# EAGLE library part BF533 (library monome-inc)
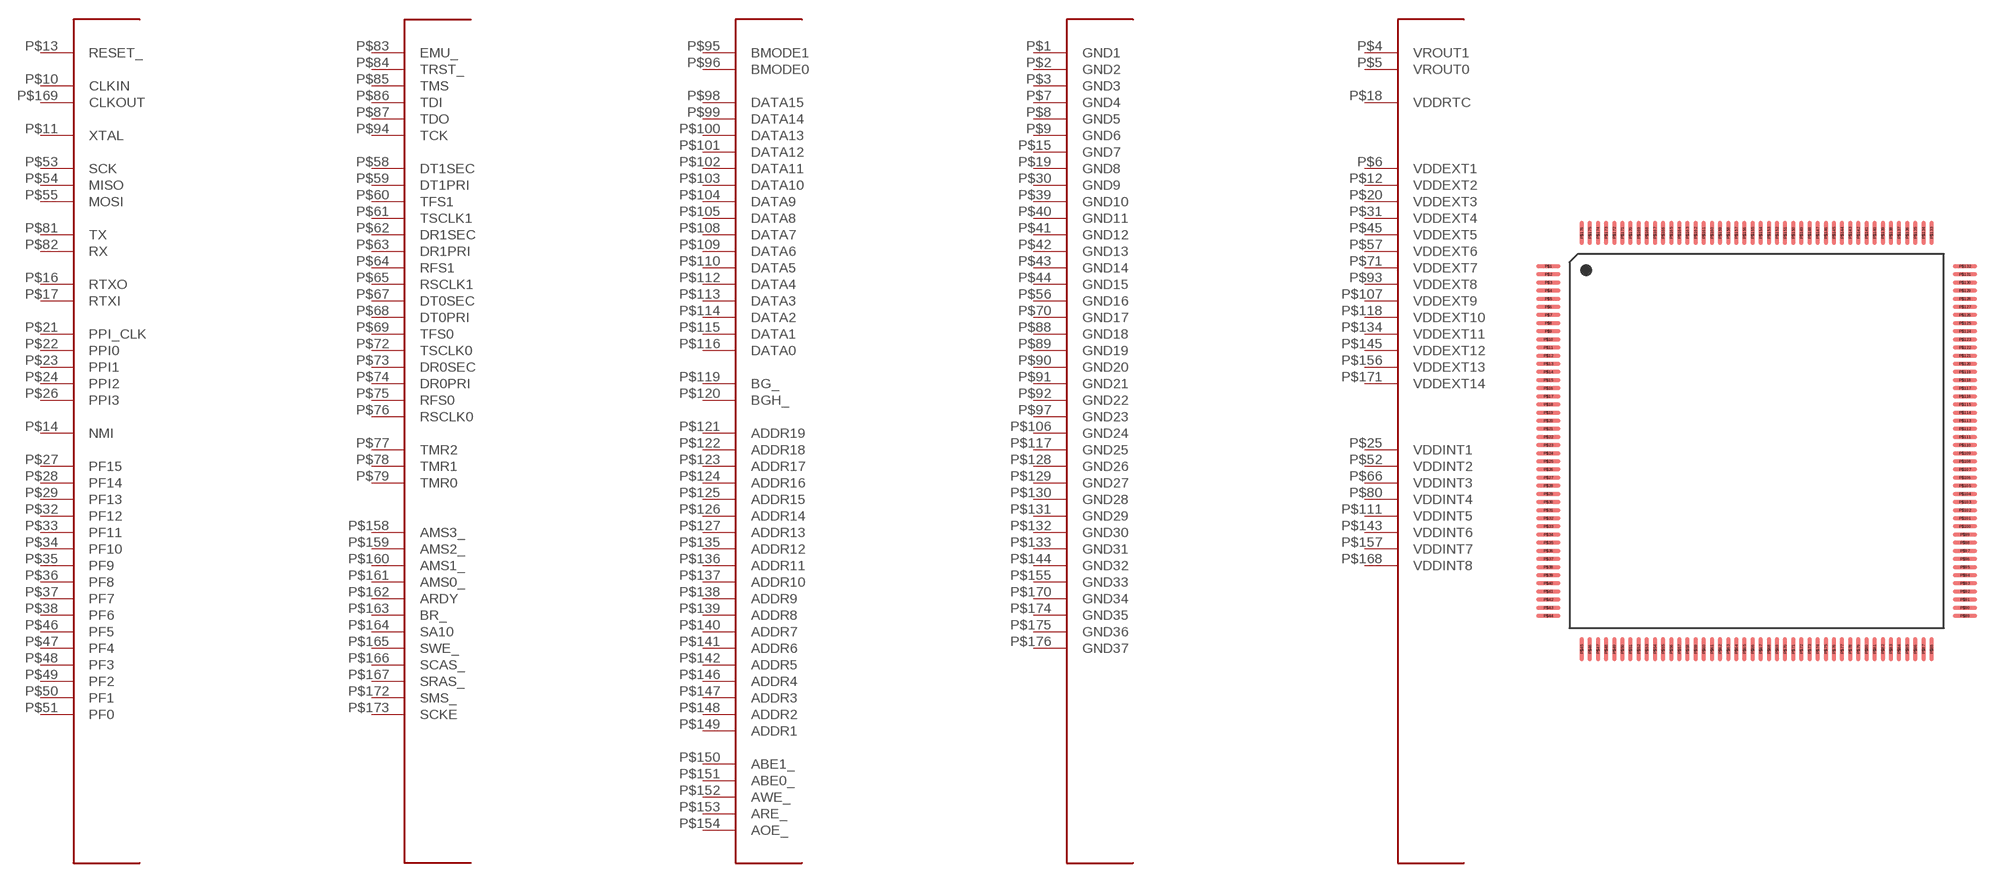
[diagram p13: symbol with the pads of LQFP176; footprint LQFP176]

Designator prefix -

## BF533  [LQFP176]
P$1  GND1
P$2  GND2
P$3  GND3
P$4  VROUT1  pwr
P$5  VROUT0  pwr
P$6  VDDEXT1  pwr
P$7  GND4
P$8  GND5
P$9  GND6
P$10  CLKIN
P$11  XTAL
P$12  VDDEXT2  pwr
P$13  RESET_
P$14  NMI
P$15  GND7
P$16  RTXO
P$17  RTXI
P$18  VDDRTC
P$19  GND8
P$20  VDDEXT3  pwr
P$21  PPI_CLK
P$22  PPI0
P$23  PPI1
P$24  PPI2
P$25  VDDINT1  pwr
P$26  PPI3
P$27  PF15
P$28  PF14
P$29  PF13
P$30  GND9
P$31  VDDEXT4  pwr
P$32  PF12
P$33  PF11
P$34  PF10
P$35  PF9
P$36  PF8
P$37  PF7
P$38  PF6
P$39  GND10
P$40  GND11
P$41  GND12
P$42  GND13
P$43  GND14
P$44  GND15
P$45  VDDEXT5  pwr
P$46  PF5
P$47  PF4
P$48  PF3
P$49  PF2
P$50  PF1
P$51  PF0
P$52  VDDINT2  pwr
P$53  SCK
P$54  MISO
P$55  MOSI
P$56  GND16
P$57  VDDEXT6  pwr
P$58  DT1SEC
P$59  DT1PRI
P$60  TFS1
P$61  TSCLK1
P$62  DR1SEC
P$63  DR1PRI
P$64  RFS1
P$65  RSCLK1
P$66  VDDINT3  pwr
P$67  DT0SEC
P$68  DT0PRI
P$69  TFS0
P$70  GND17
P$71  VDDEXT7  pwr
P$72  TSCLK0
P$73  DR0SEC
P$74  DR0PRI
P$75  RFS0
P$76  RSCLK0
P$77  TMR2
P$78  TMR1
P$79  TMR0
P$80  VDDINT4  pwr
P$81  TX
P$82  RX
P$83  EMU_
P$84  TRST_
P$85  TMS
P$86  TDI
P$87  TDO
P$88  GND18
P$89  GND19
P$90  GND20
P$91  GND21
P$92  GND22
P$93  VDDEXT8  pwr
P$94  TCK
P$95  BMODE1
P$96  BMODE0
P$97  GND23
P$98  DATA15
P$99  DATA14
P$100  DATA13
P$101  DATA12
P$102  DATA11
P$103  DATA10
P$104  DATA9
P$105  DATA8
P$106  GND24
P$107  VDDEXT9  pwr
P$108  DATA7
P$109  DATA6
P$110  DATA5
P$111  VDDINT5  pwr
P$112  DATA4
P$113  DATA3
P$114  DATA2
P$115  DATA1
P$116  DATA0
P$117  GND25
P$118  VDDEXT10  pwr
P$119  BG_
P$120  BGH_
P$121  ADDR19
P$122  ADDR18
P$123  ADDR17
P$124  ADDR16
P$125  ADDR15
P$126  ADDR14
P$127  ADDR13
P$128  GND26
P$129  GND27
P$130  GND28
P$131  GND29
P$132  GND30
P$133  GND31
P$134  VDDEXT11  pwr
P$135  ADDR12
P$136  ADDR11
P$137  ADDR10
P$138  ADDR9
P$139  ADDR8
P$140  ADDR7
P$141  ADDR6
P$142  ADDR5
P$143  VDDINT6  pwr
P$144  GND32
P$145  VDDEXT12  pwr
P$146  ADDR4
P$147  ADDR3
P$148  ADDR2
P$149  ADDR1
P$150  ABE1_
P$151  ABE0_
P$152  AWE_
P$153  ARE_
P$154  AOE_
P$155  GND33
P$156  VDDEXT13  pwr
P$157  VDDINT7  pwr
P$158  AMS3_
P$159  AMS2_
P$160  AMS1_
P$161  AMS0_
P$162  ARDY
P$163  BR_
P$164  SA10
P$165  SWE_
P$166  SCAS_
P$167  SRAS_
P$168  VDDINT8  pwr
P$169  CLKOUT
P$170  GND34
P$171  VDDEXT14  pwr
P$172  SMS_
P$173  SCKE
P$174  GND35
P$175  GND36
P$176  GND37

## Footprint LQFP176 (pad centres in mm)
smd 1.5 x 0.25: P$1 -12.8,10.75; P$2 -12.8,10.25; P$3 -12.8,9.75; P$4 -12.8,9.25; P$5 -12.8,8.75; P$6 -12.8,8.25; P$7 -12.8,7.75; P$8 -12.8,7.25; P$9 -12.8,6.75; P$10 -12.8,6.25; P$11 -12.8,5.75; P$12 -12.8,5.25; P$13 -12.8,4.75; P$14 -12.8,4.25; P$15 -12.8,3.75; P$16 -12.8,3.25; P$17 -12.8,2.75; P$18 -12.8,2.25; P$19 -12.8,1.75; P$20 -12.8,1.25; P$21 -12.8,0.75; P$22 -12.8,0.25; P$23 -12.8,-0.25; P$24 -12.8,-0.75; P$25 -12.8,-1.25; P$26 -12.8,-1.75; P$27 -12.8,-2.25; P$28 -12.8,-2.75; P$29 -12.8,-3.25; P$30 -12.8,-3.75; P$31 -12.8,-4.25; P$32 -12.8,-4.75; P$33 -12.8,-5.25; P$34 -12.8,-5.75; P$35 -12.8,-6.25; P$36 -12.8,-6.75; P$37 -12.8,-7.25; P$38 -12.8,-7.75; P$39 -12.8,-8.25; P$40 -12.8,-8.75; P$41 -12.8,-9.25; P$42 -12.8,-9.75; P$43 -12.8,-10.25; P$44 -12.8,-10.75; P$89 12.8,-10.75; P$90 12.8,-10.25; P$91 12.8,-9.75; P$92 12.8,-9.25; P$93 12.8,-8.75; P$94 12.8,-8.25; P$95 12.8,-7.75; P$96 12.8,-7.25; P$97 12.8,-6.75; P$98 12.8,-6.25; P$99 12.8,-5.75; P$100 12.8,-5.25; P$101 12.8,-4.75; P$102 12.8,-4.25; P$103 12.8,-3.75; P$104 12.8,-3.25; P$105 12.8,-2.75; P$106 12.8,-2.25; P$107 12.8,-1.75; P$108 12.8,-1.25; P$109 12.8,-0.75; P$110 12.8,-0.25; P$111 12.8,0.25; P$112 12.8,0.75; P$113 12.8,1.25; P$114 12.8,1.75; P$115 12.8,2.25; P$116 12.8,2.75; P$117 12.8,3.25; P$118 12.8,3.75; P$119 12.8,4.25; P$120 12.8,4.75; P$121 12.8,5.25; P$122 12.8,5.75; P$123 12.8,6.25; P$124 12.8,6.75; P$125 12.8,7.25; P$126 12.8,7.75; P$127 12.8,8.25; P$128 12.8,8.75; P$129 12.8,9.25; P$130 12.8,9.75; P$131 12.8,10.25; P$132 12.8,10.75
smd 0.25 x 1.5: P$45 -10.75,-12.8; P$46 -10.25,-12.8; P$47 -9.75,-12.8; P$48 -9.25,-12.8; P$49 -8.75,-12.8; P$50 -8.25,-12.8; P$51 -7.75,-12.8; P$52 -7.25,-12.8; P$53 -6.75,-12.8; P$54 -6.25,-12.8; P$55 -5.75,-12.8; P$56 -5.25,-12.8; P$57 -4.75,-12.8; P$58 -4.25,-12.8; P$59 -3.75,-12.8; P$60 -3.25,-12.8; P$61 -2.75,-12.8; P$62 -2.25,-12.8; P$63 -1.75,-12.8; P$64 -1.25,-12.8; P$65 -0.75,-12.8; P$66 -0.25,-12.8; P$67 0.25,-12.8; P$68 0.75,-12.8; P$69 1.25,-12.8; P$70 1.75,-12.8; P$71 2.25,-12.8; P$72 2.75,-12.8; P$73 3.25,-12.8; P$74 3.75,-12.8; P$75 4.25,-12.8; P$76 4.75,-12.8; P$77 5.25,-12.8; P$78 5.75,-12.8; P$79 6.25,-12.8; P$80 6.75,-12.8; P$81 7.25,-12.8; P$82 7.75,-12.8; P$83 8.25,-12.8; P$84 8.75,-12.8; P$85 9.25,-12.8; P$86 9.75,-12.8; P$87 10.25,-12.8; P$88 10.75,-12.8; P$133 10.75,12.8; P$134 10.25,12.8; P$135 9.75,12.8; P$136 9.25,12.8; P$137 8.75,12.8; P$138 8.25,12.8; P$139 7.75,12.8; P$140 7.25,12.8; P$141 6.75,12.8; P$142 6.25,12.8; P$143 5.75,12.8; P$144 5.25,12.8; P$145 4.75,12.8; P$146 4.25,12.8; P$147 3.75,12.8; P$148 3.25,12.8; P$149 2.75,12.8; P$150 2.25,12.8; P$151 1.75,12.8; P$152 1.25,12.8; P$153 0.75,12.8; P$154 0.25,12.8; P$155 -0.25,12.8; P$156 -0.75,12.8; P$157 -1.25,12.8; P$158 -1.75,12.8; P$159 -2.25,12.8; P$160 -2.75,12.8; P$161 -3.25,12.8; P$162 -3.75,12.8; P$163 -4.25,12.8; P$164 -4.75,12.8; P$165 -5.25,12.8; P$166 -5.75,12.8; P$167 -6.25,12.8; P$168 -6.75,12.8; P$169 -7.25,12.8; P$170 -7.75,12.8; P$171 -8.25,12.8; P$172 -8.75,12.8; P$173 -9.25,12.8; P$174 -9.75,12.8; P$175 -10.25,12.8; P$176 -10.75,12.8